# Altium schematic symbol library SMT6PinHeader_HLE-103-02-S-DV-BE-K-TR.SchLib: 1 symbol
Pins are listed as number, name and electrical type; pins without a type are passive.

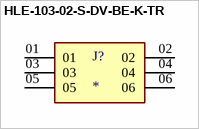
[diagram p0: symbol HLE-103-02-S-DV-BE-K-TR]

## HLE-103-02-S-DV-BE-K-TR
designator J?
6 Position Receptacle, Bottom Entry Connector Surface Mount; MP: HLE-103-02-S-DV-BE-K-TR; MF: Samtec Inc.; Package: None; Purchase-URL: https://pricing.snapeda.com/search/part/HLE-103-02-S-DV-BE-K-TR/?ref=eda; Check_prices: https://www.snapeda.com/parts/HLE-103-02-S-DV-BE-K-TR/Samtec/view-part/?ref=eda; Value: *; Digi-Key_Part_Number: SAM13987CT-ND; SnapEDA_Link: https://www.snapeda.com/parts/HLE-103-02-S-DV-BE-K-TR/Samtec/view-part/?ref=snap
footprint SAMTEC_HLE-103-02-S-DV-BE-K-TR (Footprint not found)
pins: 01, 02, 03, 04, 05, 06